# EAGLE library part PIC16F1827-X-SS (library 180118 Library by matsu)
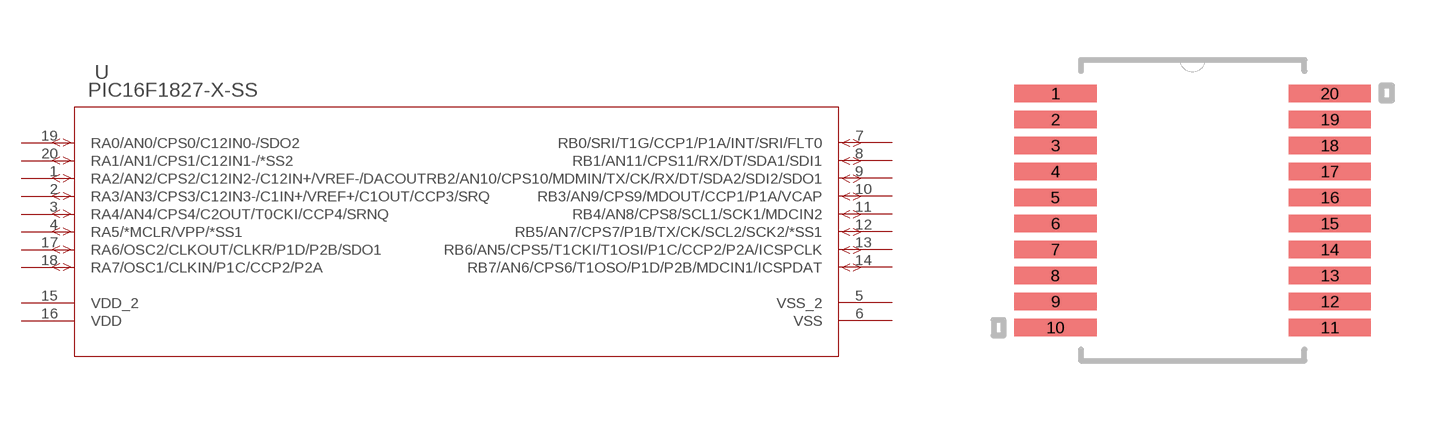
[diagram p54: symbol with the pads of PIC16F1827-X/SS; footprint PIC16F1827-X/SS]

Designator prefix -

## PIC16F1827-X-SS  [PIC16F1827-X/SS]
1  RA2/AN2/CPS2/C12IN2-/C12IN+/VREF-/DACOUT
2  RA3/AN3/CPS3/C12IN3-/C1IN+/VREF+/C1OUT/CCP3/SRQ
3  RA4/AN4/CPS4/C2OUT/T0CKI/CCP4/SRNQ
4  RA5/*MCLR/VPP/*SS1
5  VSS_2  pwr
6  VSS  pwr
7  RB0/SRI/T1G/CCP1/P1A/INT/SRI/FLT0
8  RB1/AN11/CPS11/RX/DT/SDA1/SDI1
9  RB2/AN10/CPS10/MDMIN/TX/CK/RX/DT/SDA2/SDI2/SDO1
10  RB3/AN9/CPS9/MDOUT/CCP1/P1A/VCAP
11  RB4/AN8/CPS8/SCL1/SCK1/MDCIN2
12  RB5/AN7/CPS7/P1B/TX/CK/SCL2/SCK2/*SS1
13  RB6/AN5/CPS5/T1CKI/T1OSI/P1C/CCP2/P2A/ICSPCLK
14  RB7/AN6/CPS6/T1OSO/P1D/P2B/MDCIN1/ICSPDAT
15  VDD_2  pwr
16  VDD  pwr
17  RA6/OSC2/CLKOUT/CLKR/P1D/P2B/SDO1
18  RA7/OSC1/CLKIN/P1C/CCP2/P2A
19  RA0/AN0/CPS0/C12IN0-/SDO2
20  RA1/AN1/CPS1/C12IN1-/*SS2

## Footprint PIC16F1827-X/SS (pad centres in mm)
smd 2.057 x 0.432: 1 -3.429,2.925; 2 -3.429,2.275; 3 -3.429,1.625; 4 -3.429,0.975; 5 -3.429,0.325; 6 -3.429,-0.325; 7 -3.429,-0.975; 8 -3.429,-1.625; 9 -3.429,-2.275; 10 -3.429,-2.925; 11 3.429,-2.925; 12 3.429,-2.275; 13 3.429,-1.625; 14 3.429,-0.975; 15 3.429,-0.325; 16 3.429,0.325; 17 3.429,0.975; 18 3.429,1.625; 19 3.429,2.275; 20 3.429,2.925